# Altium footprint library ne555dimmer.PcbLib: 3 footprints
Each footprint in its own frame and in the unit in brackets; x right, y up, seen from the top. Pads: shape width x height; smd on the part's side, far side on the other; paste and mask are expansions set on the pad; w line width, h text height; cw(c..) or ccw(c..) is an arc to the next point about the centre after c.
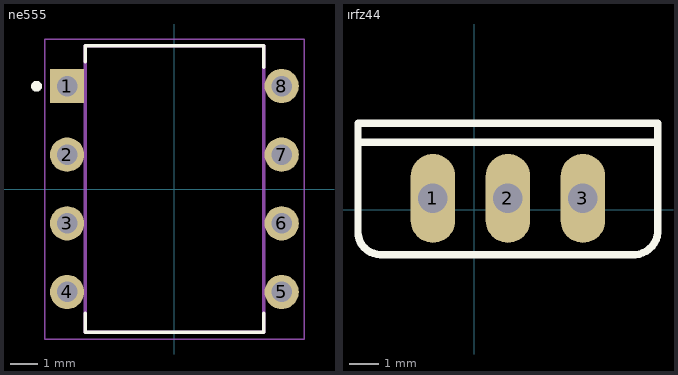
[diagram p0: the footprints below, top view; thin cyan lines are the x and y axes]

## ne555 [mm]
pads (8):
  rect 1.268x1.268 hole 0.76: 1(-3.97,3.81)
  round 1.268 hole 0.76: 2(-3.97,1.27) 3(-3.97,-1.27) 4(-3.97,-3.81) 5(3.97,-3.81) 6(3.97,-1.27) 7(3.97,1.27) 8(3.97,3.81)
Top Overlay:
  circle w0.2: c-5.1,3.8 r0.1
  lines w0.127: -3.3,-4.6 -3.3,-5.3 3.3,-5.3 3.3,-4.6 ; -3.3,4.7 -3.3,5.3 3.3,5.3 3.3,4.5
Mechanical 13:
  lines w0.127: -3.3,-5.3 3.3,-5.3 3.3,5.3 -3.3,5.3 -3.3,-5.3
Mechanical 15:
  lines w0.05: -4.8,-5.55 4.8,-5.55 4.8,5.55 -4.8,5.55 -4.8,-5.55

## PCBComponent_1 [mil]

## ırfz44 [mil]
pads (3):
  oval 59.37x118.74 hole 39.37: 1(-55,15) 2(45,15) 3(145,15)
Top Overlay:
  lines w10: 214.77,-60.02 ccw(c212.5,-27.5) 245.02,-25.23 ; 215,-60 -125,-60 cw(c-125,-30) -155,-30 -155,90 ; 245,-25 245,90 ; -155,90 -155,115 245,115 245,90 ; -155,90 245,90
Mechanical 13:
  lines w8: -155,90 -155,115 245,115 245,90 ; -125,-60 215,-60